# Altium footprint library LTST-S310F2KT.PcbLib: 1 footprints
Each footprint in its own frame and in the unit in brackets; x right, y up, seen from the top. Pads: shape width x height; smd on the part's side, far side on the other; paste and mask are expansions set on the pad; w line width, h text height; cw(c..) or ccw(c..) is an arc to the next point about the centre after c.
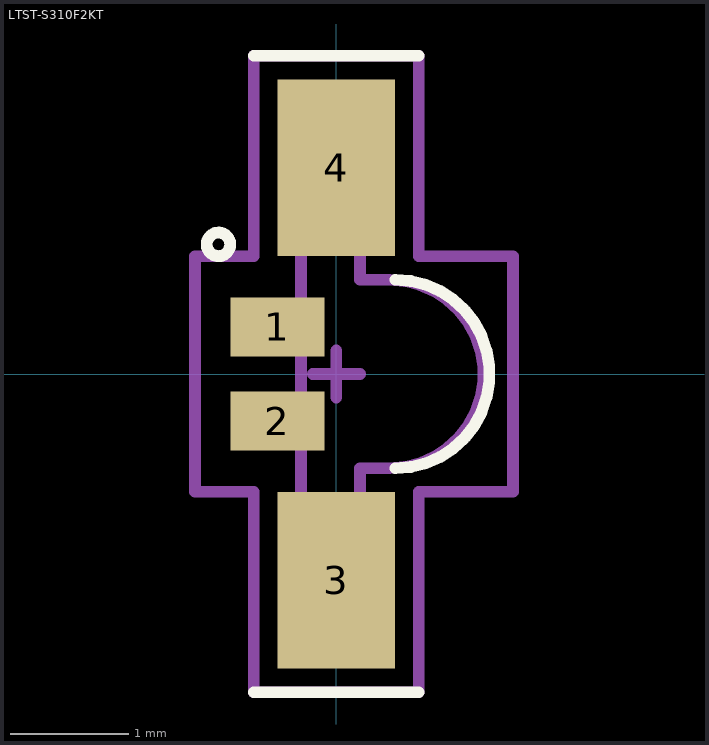
[diagram p0: the footprint, top view; thin cyan lines are the x and y axes]

## LTST-S310F2KT [mm]
pads (4):
  rect 0.8x0.5 smd: 1(-0.5,0.4) 2(-0.5,-0.4)
  rect 1x1.5 smd: 3(0,-1.75) 4(0,1.75)
Top Overlay:
  circle w0.1: c-1,1.1 r0.1
  lines w0.1: -0.7,-2.7 0.7,-2.7 ; -0.7,2.7 0.7,2.7 ; 0.5,-0.8 ccw(c0.5,0) 0.5,0.8
Mechanical 13:
  lines w0.1: -0.3,-1.8 -0.3,1.8 0.2,1.8 0.2,0.8 0.45,0.8 cw(c0.45,0) 0.45,-0.8 0.2,-0.8 0.2,-1.8 -0.3,-1.8
Mechanical 15:
  lines w0.1: -0.2,0 0.2,0 ; 0,-0.2 0,0.2 ; -1.2,-1 -1.2,1 -0.7,1 -0.7,2.7 0.7,2.7 0.7,1 1.5,1 1.5,-1 0.7,-1 0.7,-2.7 -0.7,-2.7 -0.7,-1 -1.2,-1
Mechanical 17:
  text "'.Designator'" at -0.2,2.9 h0.5
Mechanical 19:
  text "'.Comment'" at -0.2,1.9 h0.5
3D body: height 1, standoff 0.1, extent -0.3,-1.8 1.2,1.8